# Altium footprint library Connectors.PcbLib: 14 footprints
Each footprint in its own frame and in the unit in brackets; x right, y up, seen from the top. Pads: shape width x height; smd on the part's side, far side on the other; paste and mask are expansions set on the pad; w line width, h text height; cw(c..) or ccw(c..) is an arc to the next point about the centre after c.
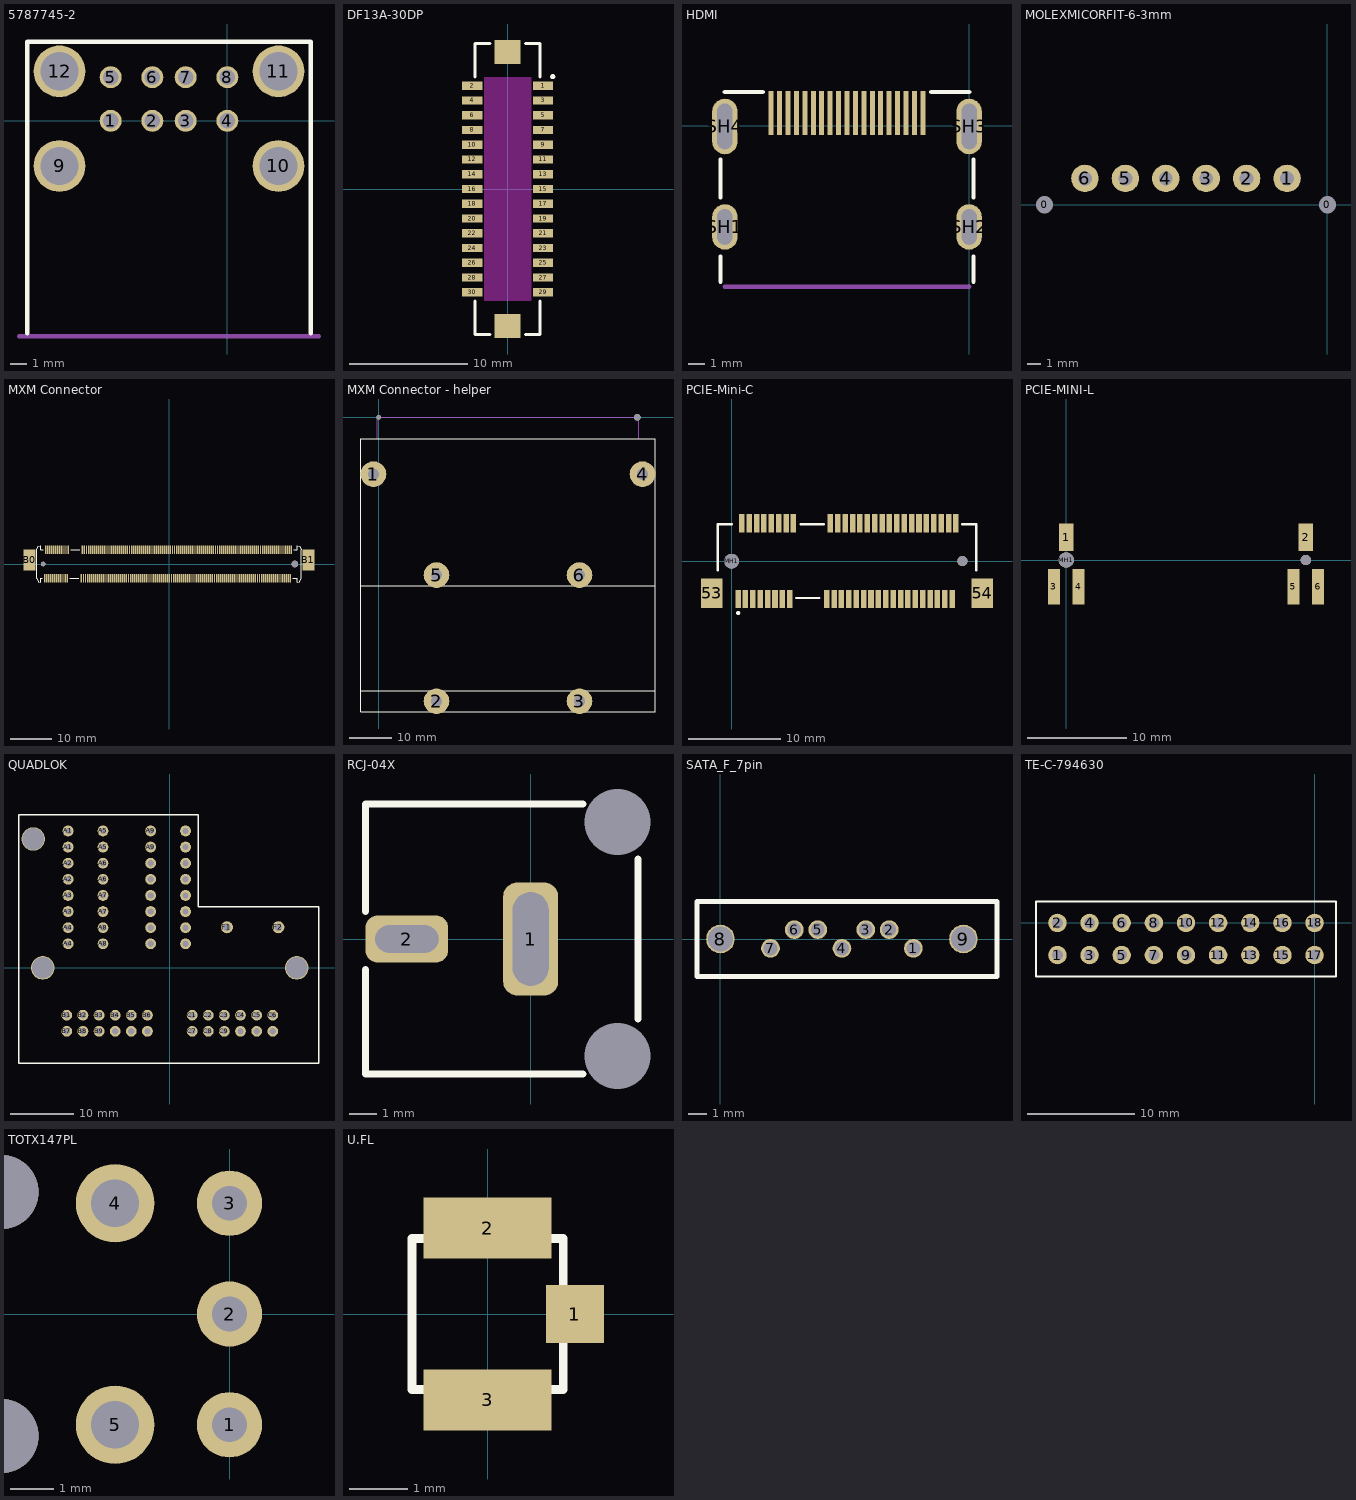
[diagram p0: the footprints below, top view; thin cyan lines are the x and y axes]

## 5787745-2 [mm] "USB2.0 Type A Receptacle, 2 Ports Stacked"
height 14.25
pads (12):
  round 1.32 hole 0.92: 1(-7,0) 2(-4.5,0) 3(-2.5,0) 4(0,0) 5(-7,2.62) 6(-4.5,2.62) 7(-2.5,2.62) 8(0,2.62)
  round 3.1 hole 2.3: 9(-10.07,-2.71) 10(3.07,-2.71) 11(3.07,2.97) 12(-10.07,2.97)
Top Overlay:
  lines w0.254: -12,-12.75 -12,4.75 5,4.75 5,-12.75
Mechanical 1:
  lines w0.254: -12.5,-12.93 5.5,-12.93
3D body: height 16.38, standoff -3.87, extent -11.629,-12.93 4.629,4.25

## DF13A-30DP [mm]
pads (32):
  rect 1.7x0.7 smd: 1(3,8.75) 2(-3,8.75) 3(3,7.5) 4(-3,7.5) 5(3,6.25) 6(-3,6.25) 7(3,5) 8(-3,5) 9(3,3.75) 10(-3,3.75) 11(3,2.5) 12(-3,2.5) 13(3,1.25) 14(-3,1.25) 15(3,0) 16(-3,0) 17(3,-1.25) 18(-3,-1.25) 19(3,-2.5) 20(-3,-2.5) 21(3,-3.75) 22(-3,-3.75) 23(3,-5) 24(-3,-5) 25(3,-6.25) 26(-3,-6.25) 27(3,-7.5) 28(-3,-7.5) 29(3,-8.75) 30(-3,-8.75)
  rect 2.2x2 smd: ""(0,-11.6) ""(0,11.6)
Top Overlay:
  circle w0.254: c3.816,9.515 r0.091
  lines w0.254: -2.75,-9.5 -2.75,-12.3 -1.5,-12.3 ; -2.75,9.5 -2.75,12.3 -1.5,12.3 ; 1.5,-12.3 2.75,-12.3 2.75,-9.5 ; 1.5,12.3 2.75,12.3 2.75,9.5
Keep-Out Layer:
  rectangle: -2,-9.5 2,9.5
3D body: height 4.8, standoff 0, extent -3.4,-12.3 3.5,12.3

## HDMI [mm]
height 6.08
pads (23):
  rect 0.3x2.6 smd: 1(-2.75,0.75) 2(-3.25,0.75) 3(-3.75,0.75) 4(-4.25,0.75) 5(-4.75,0.75) 6(-5.25,0.75) 7(-5.75,0.75) 8(-6.25,0.75) 9(-6.75,0.75) 10(-7.25,0.75) 11(-7.75,0.75) 12(-8.25,0.75) 13(-8.75,0.75) 14(-9.25,0.75) 15(-9.75,0.75) 16(-10.25,0.75) 17(-10.75,0.75) 18(-11.25,0.75) 19(-11.75,0.75)
  oval 1.5x2.7 hole 0.9 slot 2.1 at 90 deg: SH1(-14.5,-6) SH2(0,-6)
  oval 1.5x3.3 hole 0.9 slot 2.7 at 90 deg: SH3(0,-0.04) SH4(-14.5,-0.04)
Top Overlay:
  lines w0.254: -14.75,-9.25 -14.75,-7.75 ; -14.75,-4.25 -14.75,-2 ; -14.5,2 -12.25,2 ; -2.25,2 0,2 ; 0.25,-9.25 0.25,-7.75 ; 0.25,-4.25 0.25,-2
Mechanical 1:
  lines w0.254: -14.5,-9.55 0,-9.55
3D body: height 6.08, standoff -2.2, extent -14.75,-10 0.25,2

## MOLEXMICORFIT-6-3mm [mm]
height 17.56
pads (8):
  round 1 hole 1.27 unplated paste+0 mask+0: 0(-21,0) 0(0,0)
  round 2.04 hole 1.02: 1(-3,1.96) 2(-6,1.96) 3(-9,1.96) 4(-12,1.96) 5(-15,1.96) 6(-18,1.96)
3D body: height 9.95, standoff -3.13, extent -21.32,-0.47 0.32,5.1

## MXM Connector [mm]
pads (234):
  rect 0.35x2 smd: 1(-30.39,-3.5) 2(-30.15,3.5) 3(-29.89,-3.5) 4(-29.65,3.5) 5(-29.39,-3.5) 6(-29.15,3.5) 7(-28.89,-3.5) 8(-28.65,3.5) 9(-28.39,-3.5) 10(-28.15,3.5) 11(-27.89,-3.5) 12(-27.65,3.5) 13(-27.39,-3.5) 14(-27.15,3.5) 15(-26.89,-3.5) 16(-26.65,3.5) 17(-26.39,-3.5) 18(-26.15,3.5) 19(-25.89,-3.5) 20(-25.65,3.5) 21(-25.39,-3.5) 22(-25.15,3.5) 23(-24.89,-3.5) 24(-24.65,3.5) 25(-21.39,-3.5) 26(-21.15,3.5) 27(-20.89,-3.5) 28(-20.65,3.5) 29(-20.39,-3.5) 30(-20.15,3.5) 31(-19.89,-3.5) 32(-19.65,3.5) 33(-19.39,-3.5) 34(-19.15,3.5) 35(-18.89,-3.5) 36(-18.65,3.5) 37(-18.39,-3.5) 38(-18.15,3.5) 39(-17.89,-3.5) 40(-17.65,3.5) 41(-17.39,-3.5) 42(-17.15,3.5) 43(-16.89,-3.5) 44(-16.65,3.5) 45(-16.39,-3.5) 46(-16.15,3.5) 47(-15.89,-3.5) 48(-15.65,3.5) 49(-15.39,-3.5) 50(-15.15,3.5) 51(-14.89,-3.5) 52(-14.65,3.5) 53(-14.39,-3.5) 54(-14.15,3.5) 55(-13.89,-3.5) 56(-13.65,3.5) 57(-13.39,-3.5) 58(-13.15,3.5) 59(-12.89,-3.5) 60(-12.65,3.5) 61(-12.39,-3.5) 62(-12.15,3.5) 63(-11.89,-3.5) 64(-11.65,3.5) 65(-11.39,-3.5) 66(-11.15,3.5) 67(-10.89,-3.5) 68(-10.65,3.5) 69(-10.39,-3.5) 70(-10.15,3.5) 71(-9.89,-3.5) 72(-9.65,3.5) 73(-9.39,-3.5) 74(-9.15,3.5) 75(-8.89,-3.5) 76(-8.65,3.5) 77(-8.39,-3.5) 78(-8.15,3.5) 79(-7.89,-3.5) 80(-7.65,3.5) 81(-7.39,-3.5) 82(-7.15,3.5) 83(-6.89,-3.5) 84(-6.65,3.5) 85(-6.39,-3.5) 86(-6.15,3.5) 87(-5.89,-3.5) 88(-5.65,3.5) 89(-5.39,-3.5) 90(-5.15,3.5) 91(-4.89,-3.5) 92(-4.65,3.5) 93(-4.39,-3.5) 94(-4.15,3.5) 95(-3.89,-3.5) 96(-3.65,3.5) 97(-3.39,-3.5) 98(-3.15,3.5) 99(-2.89,-3.5) 100(-2.65,3.5) 101(-2.39,-3.5) 102(-2.15,3.5) 103(-1.89,-3.5) 104(-1.65,3.5) 105(-1.39,-3.5) 106(-1.15,3.5) 107(-0.89,-3.5) 108(-0.65,3.5) 109(-0.39,-3.5) 110(-0.15,3.5) 111(0.11,-3.5) 112(0.35,3.5) 113(0.61,-3.5) 114(0.85,3.5) 115(1.11,-3.5) 116(1.35,3.5) 117(1.61,-3.5) 118(1.85,3.5) 119(2.11,-3.5) 120(2.35,3.5) 121(2.61,-3.5) 122(2.85,3.5) 123(3.11,-3.5) 124(3.35,3.5) 125(3.61,-3.5) 126(3.85,3.5) 127(4.11,-3.5) 128(4.35,3.5) 129(4.61,-3.5) 130(4.85,3.5) 131(5.11,-3.5) 132(5.35,3.5) 133(5.61,-3.5) 134(5.85,3.5) 135(6.11,-3.5) 136(6.35,3.5) 137(6.61,-3.5) 138(6.85,3.5) 139(7.11,-3.5) 140(7.35,3.5) 141(7.61,-3.5) 142(7.85,3.5) 143(8.11,-3.5) 144(8.35,3.5) 145(8.61,-3.5) 146(8.85,3.5) 147(9.11,-3.5) 148(9.35,3.5) 149(9.61,-3.5) 150(9.85,3.5) 151(10.11,-3.5) 152(10.35,3.5) 153(10.61,-3.5) 154(10.85,3.5) 155(11.11,-3.5) 156(11.35,3.5) 157(11.61,-3.5) 158(11.85,3.5) 159(12.11,-3.5) 160(12.35,3.5) 161(12.61,-3.5) 162(12.85,3.5) 163(13.11,-3.5) 164(13.35,3.5) 165(13.61,-3.5) 166(13.85,3.5) 167(14.11,-3.5) 168(14.35,3.5) 169(14.61,-3.5) 170(14.85,3.5) 171(15.11,-3.5) 172(15.35,3.5) 173(15.61,-3.5) 174(15.85,3.5) 175(16.11,-3.5) 176(16.35,3.5) 177(16.61,-3.5) 178(16.85,3.5) 179(17.11,-3.5) 180(17.35,3.5) 181(17.61,-3.5) 182(17.85,3.5) 183(18.11,-3.5) 184(18.35,3.5) 185(18.61,-3.5) 186(18.85,3.5) 187(19.11,-3.5) 188(19.35,3.5) 189(19.61,-3.5) 190(19.85,3.5) 191(20.11,-3.5) 192(20.35,3.5) 193(20.61,-3.5) 194(20.85,3.5) 195(21.11,-3.5) 196(21.35,3.5) 197(21.61,-3.5) 198(21.85,3.5) 199(22.11,-3.5) 200(22.35,3.5) 201(22.61,-3.5) 202(22.85,3.5) 203(23.11,-3.5) 204(23.35,3.5) 205(23.61,-3.5) 206(23.85,3.5) 207(24.11,-3.5) 208(24.35,3.5) 209(24.61,-3.5) 210(24.85,3.5) 211(25.11,-3.5) 212(25.35,3.5) 213(25.61,-3.5) 214(25.85,3.5) 215(26.11,-3.5) 216(26.35,3.5) 217(26.61,-3.5) 218(26.85,3.5) 219(27.11,-3.5) 220(27.35,3.5) 221(27.61,-3.5) 222(27.85,3.5) 223(28.11,-3.5) 224(28.35,3.5) 225(28.61,-3.5) 226(28.85,3.5) 227(29.11,-3.5) 228(29.35,3.5) 229(29.61,-3.5) 230(29.85,3.5)
  rect 3x5.15 smd: B0(-34.06,0.98) B1(34.06,0.98)
  round 1.1 hole 1.1 unplated paste+0: MH1(-30.75,0)
  round 1.6 hole 1.6 unplated paste+0: MH2(30.75,0)
Top Overlay:
  lines w0.254: -30.936,-3.5 -31.35,-3.5 -31.35,-4.5 -31.95,-4.3 -32.35,-3.5 -32.35,3.5 -31.95,4.3 -31.35,4.5 -31.35,3.5 -30.73,3.5 ; -24.25,-3.5 -22.013,-3.5 ; -24.024,3.5 -21.75,3.5 ; 30.209,-3.5 31.35,-3.5 31.35,-4.5 31.95,-4.3 32.35,-3.5 ; 30.457,3.5 31.35,3.5 31.35,4.5 31.95,4.3 32.35,3.5 32.35,-3.5 ; 32.35,-3.5 32.35,-3.5

## MXM Connector - helper [mm]
pads (8):
  round 6.096 hole 2.692: 1(-1.25,-13.5) 2(13.75,-67.5) 3(47.75,-67.5) 4(62.75,-13.5) 5(13.75,-37.5) 6(47.75,-37.5)
  round 1.1 hole 1.1 unplated paste+0 mask+0: MH1(0,0)
  round 1.6 hole 1.6 paste+0 mask+0: MH2(61.5,0)
Top Overlay:
  lines w0.254: -4.25,-65 65.75,-65 ; -4.25,-40 65.75,-40 ; 65.75,-70 -4.25,-70 -4.25,-5.1 65.755,-5.1 65.755,-70
Mechanical 1:
  lines w0.254: -0.305,-5.1 -0.305,0 61.805,0 61.805,-5.1

## PCIE-Mini-C [mm]
height 3.9
pads (56):
  rect 0.6x2 smd: 1(0.7,-4.1) 2(1.1,4.1) 3(1.5,-4.1) 4(1.9,4.1) 5(2.3,-4.1) 6(2.7,4.1) 7(3.1,-4.1) 8(3.5,4.1) 9(3.9,-4.1) 10(4.3,4.1) 11(4.7,-4.1) 12(5.1,4.1) 13(5.5,-4.1) 14(5.9,4.1) 15(6.3,-4.1) 16(6.7,4.1) 17(10.3,-4.1) 18(10.7,4.1) 19(11.1,-4.1) 20(11.5,4.1) 21(11.9,-4.1) 22(12.3,4.1) 23(12.7,-4.1) 24(13.1,4.1) 25(13.5,-4.1) 26(13.9,4.1) 27(14.3,-4.1) 28(14.7,4.1) 29(15.1,-4.1) 30(15.5,4.1) 31(15.9,-4.1) 32(16.3,4.1) 33(16.7,-4.1) 34(17.1,4.1) 35(17.5,-4.1) 36(17.9,4.1) 37(18.3,-4.1) 38(18.7,4.1) 39(19.1,-4.1) 40(19.5,4.1) 41(19.9,-4.1) 42(20.3,4.1) 43(20.7,-4.1) 44(21.1,4.1) 45(21.5,-4.1) 46(21.9,4.1) 47(22.3,-4.1) 48(22.7,4.1) 49(23.1,-4.1) 50(23.5,4.1) 51(23.9,-4.1) 52(24.3,4.1)
  rect 2.3x3.2 smd: 53(-2.15,-3.5) 54(27.15,-3.5)
  round 1.6 hole 1.6 unplated paste+0 mask+0: MH1(0,0)
  round 1.1 hole 1.1 unplated paste+0 mask+0: MH2(25,0)
Top Overlay:
  circle w0.254: c0.709,-5.62 r0.1
  lines w0.254: -1.5,-1 -1.5,4 0,4 ; 7,-4 9.5,-4 ; 7.5,4 10,4 ; 25,4 26.5,4 26.5,-1
3D body: height 3.8, standoff -0.9, extent -2.35,-5 27.35,5

## PCIE-MINI-L [mm]
height 4.8
pads (8):
  rect 1.5x2.8 smd: 1(0,2.3) 2(24.2,2.3)
  rect 1.2x3.6 smd: 3(-1.25,-2.7) 4(1.25,-2.7) 5(22.95,-2.7) 6(25.45,-2.7)
  round 1.55 hole 1.55 unplated paste+0 mask+0: MH1(0,0)
  round 1.05 hole 1.05 unplated paste+0 mask+0: MH2(24.2,0)
3D body: height 4.7, standoff -0.9, extent -2.427,-3.965 26.573,3.935

## QUADLOK [mm] "Micro-Power & Power Quadlok System"
pads (61):
  round 1.7 hole 1: A1(-16.02,19.03) A1(-16.02,21.57) A2(-16.02,13.95) A2(-16.02,16.49) A3(-16.02,8.87) A3(-16.02,11.41) A4(-16.02,3.79) A4(-16.02,6.33) A5(-10.52,19.03) A5(-10.52,21.57) A6(-10.52,13.95) A6(-10.52,16.49) A7(-10.52,8.87) A7(-10.52,11.41) A8(-10.52,3.79) A8(-10.52,6.33) A9(-3.02,19.03) A9(-3.02,21.57) A10(-3.02,13.95) A10(-3.02,16.49) A11(-3.02,8.87) A11(-3.02,11.41) A12(-3.02,3.79) A12(-3.02,6.33) A13(2.48,19.03) A13(2.48,21.57) A14(2.48,13.95) A14(2.48,16.49) A15(2.48,8.87) A15(2.48,11.41) A16(2.48,3.79) A16(2.48,6.33) B1(-16.22,-7.45) B2(-13.68,-7.45) B3(-11.14,-7.45) B4(-8.6,-7.45) B5(-6.06,-7.45) B6(-3.52,-7.45) B7(-16.22,-9.99) B8(-13.68,-9.99) B9(-11.14,-9.99) B10(-8.6,-9.99) B11(-6.06,-9.99) B12(-3.52,-9.99) C1(3.52,-7.45) C2(6.06,-7.45) C3(8.6,-7.45) C4(11.14,-7.45) C5(13.68,-7.45) C6(16.22,-7.45) C7(3.52,-9.99) C8(6.06,-9.99) C9(8.6,-9.99) C10(11.14,-9.99) C11(13.68,-9.99) C12(16.22,-9.99)
  round 1.9 hole 1.2: F1(9,6.4) F2(17.1,6.4)
  round 3.7 hole 3.4 unplated paste-1000: ""(-21.5,20.3) ""(-20,0) ""(20,0)
Top Overlay:
  lines w0.2: -23.75,-15 -23.75,24.1 4.5,24.1 4.5,9.6 23.5,9.6 23.5,0 23.5,-15 -23.75,-15
3D body: height 28.5, standoff -5.15, extent -24.9,-19.6 24.9,26.5

## RCJ-04X [mm] "RCJ Jack, Right Angle, PCB Mount"
height 13
pads (4):
  rrect50% 2x4.1 hole 1.3 slot 3.4 at 90 deg: 1(0,0)
  rrect50% 3x1.7 hole 1 slot 2.3 at 0 deg: 2(-4.5,0)
  round 1.7 hole 2.4 unplated mask-1816.05: ""(3.15,-4.25)
  rect 1x1 hole 2.4 unplated mask-1816.05: ""(3.15,4.25)
Top Overlay:
  lines w0.254: -6,-1.1 -6,-4.9 1.9,-4.9 ; -6,1 -6,4.9 1.9,4.9 ; 3.9,-2.9 3.9,2.9
3D body: height 11.8, standoff -3.7, extent -6.1,-5 13.4,5

## SATA_F_7pin [mm]
pads (9):
  round 1 hole 0.74: 1(10.29,-0.5) 2(9,0.5) 3(7.75,0.5) 4(6.48,-0.5) 5(5.19,0.5) 6(3.94,0.5) 7(2.67,-0.5)
  round 1.524 hole 1.35: 8(0,0) 9(12.96,0)
Top Overlay:
  lines w0.254: -1.25,-2 14.75,-2 14.75,2 -1.25,2 -1.25,-2
3D body: height 8.45, standoff -2.52, extent -1.23,-2 14.77,2

## TE-C-794630 [mm] "VERTICAL HEADER ASSEMBLY, THRU HOLE, TIN, DUAL ROW, MICRO MATE-N-LOK"
height 9.24
pads (18):
  round 1.72 hole 1.02: 1(-24,-3) 2(-24,0) 3(-21,-3) 4(-21,0) 5(-18,-3) 6(-18,0) 7(-15,-3) 8(-15,0) 9(-12,-3) 10(-12,0) 11(-9,-3) 12(-9,0) 13(-6,-3) 14(-6,0) 15(-3,-3) 16(-3,0) 17(0,-3) 18(0,0)
Top Overlay:
  lines w0.2: -26,-5 -26,2 2,2 2,-5 -26,-5
3D body: height 9.3, standoff -3.12, extent -27.5,-5.44 3.5,3.23

## TOTX147PL [mm] "Fiber Optic Transmitting Module"
height 10
pads (5):
  round 1.5 hole 0.8: 1(0,-2.54) 2(0,0) 3(0,2.54)
  round 1.8 hole 1.1: 4(-2.625,2.54) 5(-2.625,-2.54)
via -5.235,-2.8 diameter 1.7 hole 1.7
via -5.235,2.8 diameter 1.7 hole 1.7
3D body: height 0.3, standoff -3.3, extent -0.347,2.191 0.35,2.89
3D body: height 0.3, standoff -3.3, extent -0.347,-0.349 0.35,0.35
3D body: height 0.3, standoff -3.3, extent -0.347,-2.889 0.35,-2.19
3D body: height 0.3, standoff -3.3, extent -3.121,2.041 -2.125,3.039
3D body: height 0.3, standoff -3.3, extent -3.121,-3.039 -2.125,-2.041
3D body: height 0.3, standoff -3.3, extent -6.029,2.002 -4.435,3.599
3D body: height 0.3, standoff -3.3, extent -6.029,-3.598 -4.435,-2.001
3D body: height 10, standoff 0.3, extent -11.2,-4.85 2.3,4.85

## U.FL [mm] "A microminiature RF coaxial connector"
height 1.25
pads (3):
  rect 1x1 smd: 1(1.5,0)
  rect 2.2x1.05 smd: 2(0,1.478) 3(0,-1.478)
Top Overlay:
  lines w0.152: -1.3,-1.295 -1.3,1.295 1.3,1.295 1.3,-1.295 -1.3,-1.295
3D body: height 1.34, standoff -0.01, extent -1.55,-1.364 1.55,1.364